# Altium schematic symbol library PassiveComponents.SchLib: 11 symbols
Pins are listed as number, name and electrical type; pins without a type are passive.

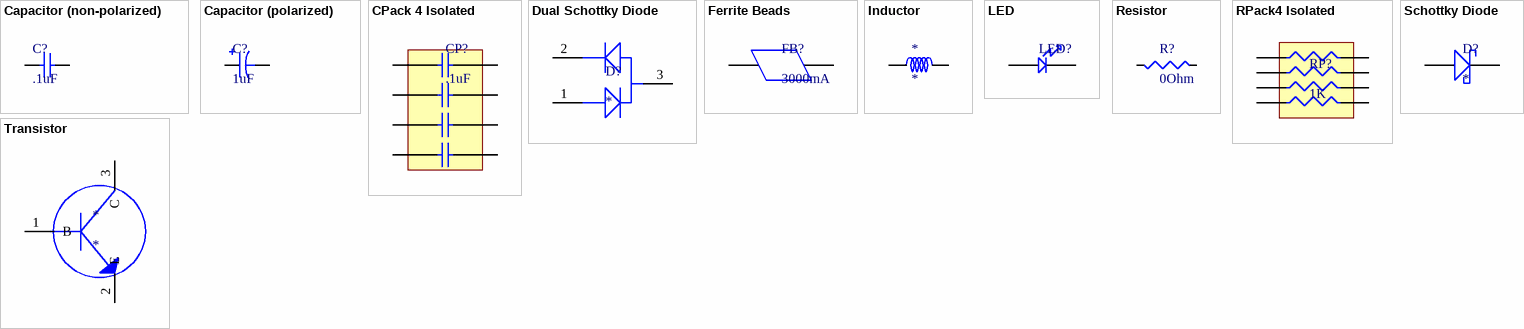
[diagram p0: symbols Capacitor (non-polarized) to Transistor]

## Capacitor (non-polarized)
designator C?, comment .1uF
Capacitor; Value: .1uF
footprint 0805 (2012) Capacitor
footprint 0402 (1005) CAPACITOR (0402 (1005) Capacitor)
footprint 1206 (3216) Capacitor
footprint 1210 (3225) Capacitor
pins: 1, 2

## Capacitor (polarized)
designator C?, comment 1uF
Capacitor (polarized)
footprint Radial (8mm x 15mm, 3.5mm spacing)
footprint Radial_8mmDia_SM_E (Surface Mount Aluminum Electrolytic Capacitor)
footprint Radial_6.3mmDia_SM_D (Surface Mount Aluminum Electrolytic Capacitor)
footprint 7343-43 Capacitor
footprint Surface Mount Can Capacitor (10mm diameter, 10.2mm height, Size Code G)
pins: N 2, P 1

## CPack 4 Isolated
designator CP?, comment .1uF
4x Isolated Capacitor Pack; Value: .1uF
footprint 0402 4Pack
pins: 0, 1, 1, 1, 1, 1, 2, 2, 2, 2, 2, 3, 4, 5, 6, 7

## Dual Schottky Diode
designator D?
Dual Schottky Diode
footprint SOT23
pins: 1, 2, 3

## Ferrite Beads
designator FB?, comment 3000mA
Ferrite Beads
footprint 0805 (2012) Capacitor
footprint 0603 (1608) Capacitor
pins: 1, 2

## Inductor
designator *
footprint 1210 (3225) Capacitor
pins: 1, 2

## LED
designator LED?  (value not drawn)
Standard LED
footprint LED 0402
footprint LED 0805
pins: 1, 2

## Resistor
designator R?, comment 0Ohm
Resistor; Value: 0Ohm
footprint R 0402 (1005) RESISTOR (0402 (1005) Resistor)
footprint R 0805 (2012) RESISTOR (0805 (2012) Resistor)
footprint R 1206 (3216) RESISTOR (1206 (3216) Resistor)
footprint R 1210 (3225) RESISTOR (1210 (3225) Resistor)
footprint R 0603 (1608) RESISTOR (0603 (1608) Resistor)
pins: 1, 2

## RPack4 Isolated
designator RP?, comment 1K
4x Isolated Resistor Pack; Value: 1K
footprint 0402 4Pack
pins: 0, 1, 2, 3, 4, 5, 6, 7

## Schottky Diode
designator D?
Schottky Diode
footprint DO-41
footprint SOT23
footprint DO-214AA
pins: A, K

## Transistor
designator *
footprint SOT23
pins: 1 B, 2 E, 3 C